# EAGLE library part AL2-4EX (library e-sps)
AL2 4EX 4 x DC-Eingang MITSUBISHI Alpha_Installationsanweisung.pdf
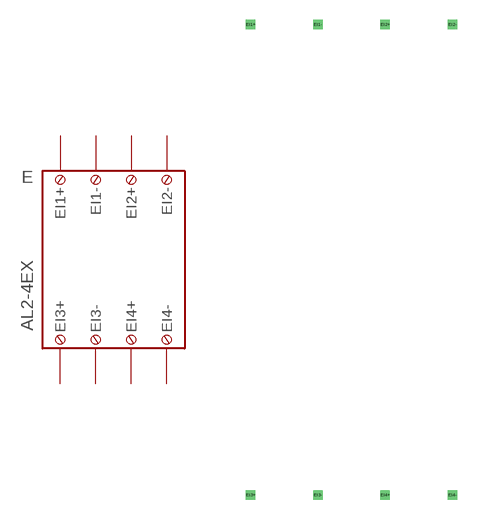
[diagram p21: symbol with the pads of AL2-4EX; footprint AL2-4EX]

Designator prefix E

## AL2-4EX  [AL2-4EX]
EI1+  EI1+  pas
EI1-  EI1-  pas
EI2+  EI2+  pas
EI2-  EI2-  pas
EI3+  EI3+  pas
EI3-  EI3-  pas
EI4+  EI4+  pas
EI4-  EI4-  pas

## Footprint AL2-4EX (pad centres in mm)
AL2 4EX
drill 0.2 pad 0.6 square: EI1+ -7.62,17.78; EI1- -2.54,17.78; EI2+ 2.54,17.78; EI2- 7.62,17.78; EI3+ -7.62,-17.78; EI3- -2.54,-17.78; EI4+ 2.54,-17.78; EI4- 7.62,-17.78